# EAGLE library part FTDI-USB-SERIAL (library GClue)
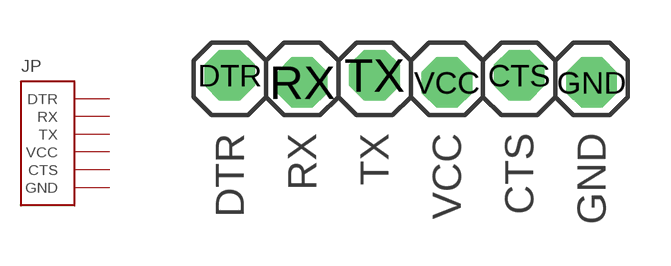
[diagram p23: symbol with the pads of 1X6-FTDISERIAL; footprint 1X6-FTDISERIAL]

Designator prefix JP

## FTDI-USB-SERIAL  [1X6-FTDISERIAL]
CTS  CTS
DTR  DTR
GND  GND
RX  RX
TX  TX
VCC  VCC

## Footprint 1X6-FTDISERIAL (pad centres in mm)
drill 1 pad 1.778 octagon: CTS 3.81,0.127; DTR -6.35,0.127; GND 6.35,-0.127; RX -3.81,-0.127; TX -1.27,0.127; VCC 1.27,-0.127